# Altium schematic symbol library 532610371.SchLib: 1 symbol
Pins are listed as number, name and electrical type; pins without a type are passive.

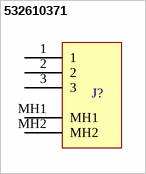
[diagram p0: symbol 532610371]

## 532610371
designator J?  (value not drawn)
Molex Picoblade $3-pin connector
pins: 1, 2, 3, MH1 (power), MH2 (power)